# EAGLE library part DRV8303DCA (library DRV8303DCA)
Texas Instruments DRV8303DCA, Three-Phase Gate Driver With Dual-Current Shunt Source: Datasheet <https://componentsearchengine.com/Datasheets/2/DRV8303DCA.pdf>
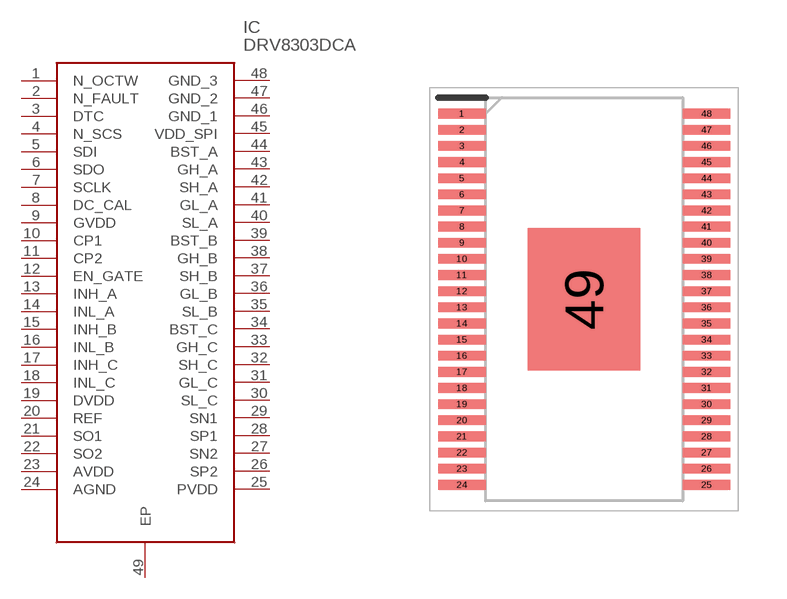
[diagram p0: symbol with the pads of SOP50P810X120-49N; footprint SOP50P810X120-49N]

Designator prefix IC

## DRV8303DCA (Arrow_Part_Number: DRV8303DCA; Arrow_Price-Stock: https://www.arrow.com/en/products/drv8303dca/texas-instruments; Description: Texas Instruments DRV8303DCA, Three-Phase Gate Driver With Dual-Current Shunt; Height: 1.2mm; Manufacturer_Name: Texas Instruments; Manufacturer_Part_Number: DRV8303DCA; Mouser_Part_Number: 595-DRV8303DCA; Mouser_Price-Stock: https://www.mouser.co.uk/ProductDetail/Texas-Instruments/DRV8303DCA?qs=igp4D3uu33KLowzNFy6WPA%3D%3D)  [SOP50P810X120-49N]
1  N_OCTW  out
2  N_FAULT  out
3  DTC  in
4  N_SCS  in
5  SDI  in
6  SDO  out
7  SCLK  in
8  DC_CAL  in
9  GVDD  pwr
10  CP1  pwr
11  CP2  pwr
12  EN_GATE  in
13  INH_A  in
14  INL_A  in
15  INH_B  in
16  INL_B  in
17  INH_C  in
18  INL_C  in
19  DVDD  pwr
20  REF  in
21  SO1  out
22  SO2  out
23  AVDD  pwr
24  AGND  pwr
25  PVDD  pwr
26  SP2  in
27  SN2  in
28  SP1  in
29  SN1  in
30  SL_C  in
31  GL_C  out
32  SH_C  in
33  GH_C  out
34  BST_C
35  SL_B  in
36  GL_B  out
37  SH_B  in
38  GH_B  out
39  BST_B
40  SL_A  in
41  GL_A  out
42  SH_A  in
43  GH_A  out
44  BST_A
45  VDD_SPI  pwr
46  GND_1  pwr
47  GND_2  pwr
48  GND_3  pwr
49  EP

## Footprint SOP50P810X120-49N (pad centres in mm)
DCA (R-PDSO-G48)_2
smd 1.475 x 0.3: 1 -3.788,5.75; 2 -3.788,5.25; 3 -3.788,4.75; 4 -3.788,4.25; 5 -3.788,3.75; 6 -3.788,3.25; 7 -3.788,2.75; 8 -3.788,2.25; 9 -3.788,1.75; 10 -3.788,1.25; 11 -3.788,0.75; 12 -3.788,0.25; 13 -3.788,-0.25; 14 -3.788,-0.75; 15 -3.788,-1.25; 16 -3.788,-1.75; 17 -3.788,-2.25; 18 -3.788,-2.75; 19 -3.788,-3.25; 20 -3.788,-3.75; 21 -3.788,-4.25; 22 -3.788,-4.75; 23 -3.788,-5.25; 24 -3.788,-5.75; 25 3.788,-5.75; 26 3.788,-5.25; 27 3.788,-4.75; 28 3.788,-4.25; 29 3.788,-3.75; 30 3.788,-3.25; 31 3.788,-2.75; 32 3.788,-2.25; 33 3.788,-1.75; 34 3.788,-1.25; 35 3.788,-0.75; 36 3.788,-0.25; 37 3.788,0.25; 38 3.788,0.75; 39 3.788,1.25; 40 3.788,1.75; 41 3.788,2.25; 42 3.788,2.75; 43 3.788,3.25; 44 3.788,3.75; 45 3.788,4.25; 46 3.788,4.75; 47 3.788,5.25; 48 3.788,5.75
smd 3.48 x 4.42: 49 0,0